# Altium footprint library Bourns.PcbLib: 4 footprints
Each footprint in its own frame and in the unit in brackets; x right, y up, seen from the top. Pads: shape width x height; smd on the part's side, far side on the other; paste and mask are expansions set on the pad; w line width, h text height; cw(c..) or ccw(c..) is an arc to the next point about the centre after c.
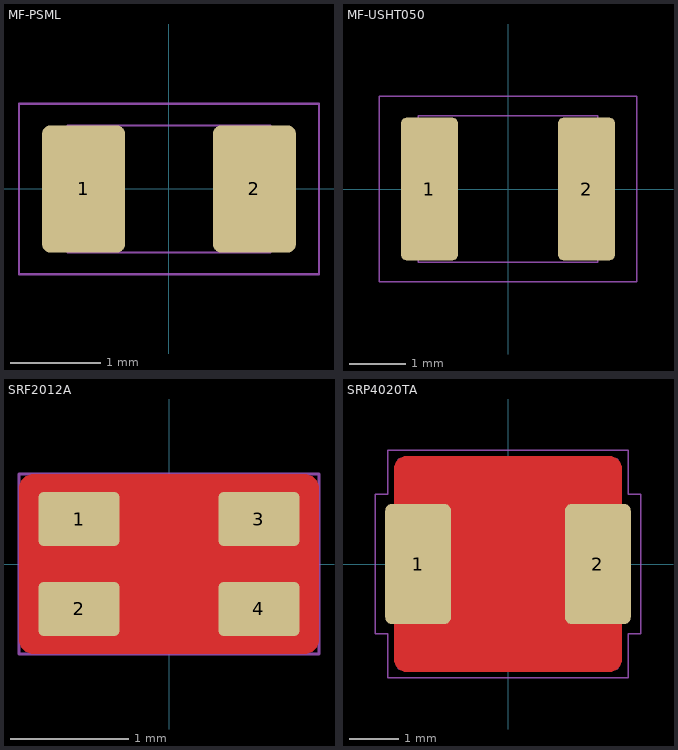
[diagram p0: the footprints below, top view; thin cyan lines are the x and y axes]

## MF-PSML [mil]
pads (2):
  rrect20% 36x55.12 smd paste-3 mask+2: 1(-37,0) 2(37,0)
Top Designator:
  text ".Designator" at -127.64,-12.5 h35
Top Courtyard:
  lines w1: -65,-37 65,-37 65,37 -65,37 -65,-37
Top Component Outline:
  lines w1: -43.93,-27.54 -43.93,27.54 43.93,27.54 43.93,-27.54 -43.93,-27.54
3D body "MF-PSML400_8.STP": height 31, standoff -0.5, extent -43.93,-27.54 43.93,27.54

## MF-USHT050 [mil]
height 39.37
pads (2):
  rrect20% 40x100 smd: 1(-55,0) 2(55,0)
Top Designator:
  text ".Designator" at -127.64,-12.5 h35
Top Courtyard:
  lines w1: -90,-65 -90,65 90,65 90,-65 -90,-65
Top Component Outline:
  lines w1: -62.99,-51.18 -62.99,51.18 62.99,51.18 62.99,-51.18 -62.99,-51.18
3D body "mf-usht050kx.stp": height 23, standoff -0.62, extent -62.99,-51.18 62.99,51.18

## SRF2012A [mil]
pads (4):
  rrect20% 27x18 smd mask+2: 1(-30,15) 2(-30,-15) 3(30,15) 4(30,-15)
Top Layer:
  pour cut-out: -45,30 -45.99,30 -47.83,29.24 -49.24,27.83 -50,25.99 -50,25 -50,-25 -50,-25.99 -49.24,-27.83 -47.83,-29.24 -45.99,-30 -45,-30 45,-30 45.99,-30 47.83,-29.24 49.24,-27.83 50,-25.99 50,-25 50,25 50,25.99 49.24,27.83 47.83,29.24 45.99,30 45,30
Top Courtyard:
  lines w1: -50,-30 50,-30 50,30 -50,30 -50,-30
Top Component Outline:
  lines w1: -40,-6 -18,-6 -18,-24 ; -40,6 -18,6 -18,24 ; 18,-24 18,-6 40,-6 ; 18,24 18,6 40,6 ; -40,-24 -40,24 40,24 40,-24 -40,-24
3D body "srf2012a.stp": height 46.62, standoff -0.62, extent -39.37,-23.62 39.37,23.63

## SRP4020TA [mil]
pads (2):
  rrect20% 52x95 smd paste-5 mask+2: 1(-71,0) 2(71,0)
Top Layer:
  pour cut-out: -80,85 -81.99,85 -85.66,83.48 -88.48,80.66 -90,76.99 -90,75 -90,-75 -90,-76.99 -88.48,-80.66 -85.66,-83.48 -81.99,-85 -80,-85 80,-85 81.99,-85 85.66,-83.48 88.48,-80.66 90,-76.99 90,-75 90,75 90,76.99 88.48,80.66 85.66,83.48 81.99,85 80,85
Top Courtyard:
  lines w1: -105,-55 -105,55 -95,55 -95,90 95,90 95,55 105,55 105,-55 95,-55 95,-90 -95,-90 -95,-55 -105,-55
Top Component Outline:
  lines w1: -86.61,-82.68 86.61,-82.68 86.61,82.68 -86.61,82.68 -86.61,-82.68
3D body "SRP4020TA.step": height 74.87, standoff -0.13, extent -86.61,-82.68 86.62,82.68